# Altium schematic symbol library ICs-USBInterface.SchLib: 4 symbols
Pins are listed as number, name and electrical type; pins without a type are passive.

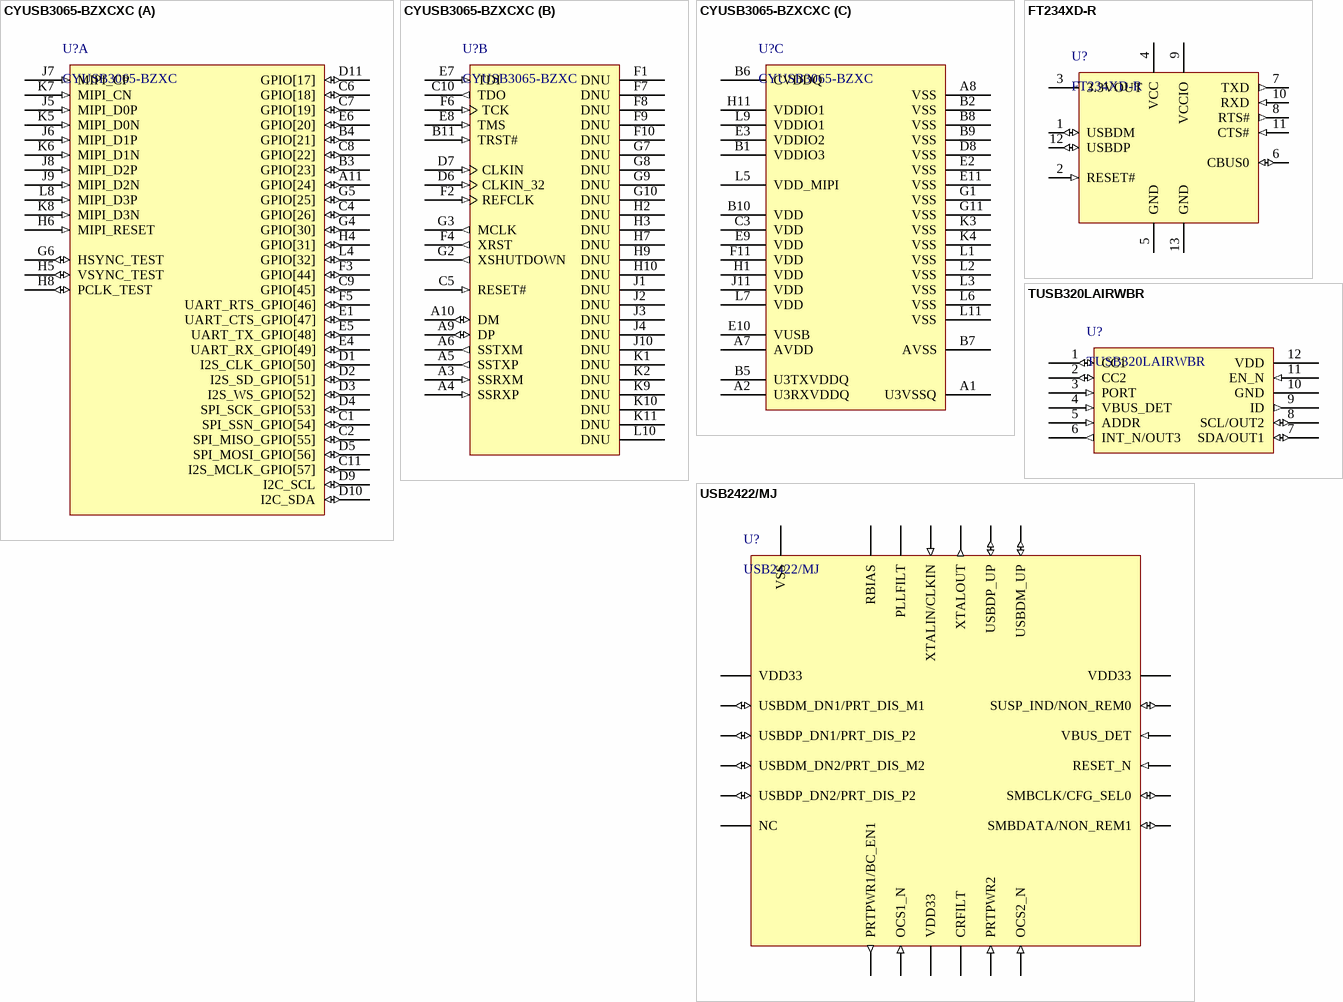
[diagram p0: symbols CYUSB3065-BZXCXC to USB2422/MJ]

## CYUSB3065-BZXCXC
designator U?, comment CYUSB3065-BZXC
MCU MIPI CSI-2 to USB Bridge Controller; Manufacturer: Cypress Semiconductor; Mounting Technology: Surface Mount; PartNumber: CYUSB3065-BZXC; PackageReference: BGA-121
footprint BGA-121 (BGA, 121-Leads, Body 10.00x10.00mmx1.70mm, Pitch 0.80mm)
part A pins: A11 GPIO[24] (io), B3 GPIO[23] (io), B4 GPIO[21] (io), C1 SPI_SSN_GPIO[54] (io), C2 SPI_MISO_GPIO[55] (io), C4 GPIO[26] (io), C6 GPIO[18] (io), C7 GPIO[19] (io), C8 GPIO[22] (io), C9 GPIO[45] (io), C11 I2S_MCLK_GPIO[57] (io), D1 I2S_CLK_GPIO[50] (io), D2 I2S_SD_GPIO[51] (io), D3 I2S_WS_GPIO[52] (io), D4 SPI_SCK_GPIO[53] (io), D5 SPI_MOSI_GPIO[56] (io), D9 I2C_SCL (io), D10 I2C_SDA (io), D11 GPIO[17] (io), E1 UART_CTS_GPIO[47] (io), E4 UART_RX_GPIO[49] (io), E5 UART_TX_GPIO[48] (io), E6 GPIO[20] (io), F3 GPIO[44] (io), F5 UART_RTS_GPIO[46] (io), G4 GPIO[30] (io), G5 GPIO[25] (io), G6 HSYNC_TEST (io), H4 GPIO[31] (io), H5 VSYNC_TEST (io), H6 MIPI_RESET (in), H8 PCLK_TEST (io), J5 MIPI_D0P (in), J6 MIPI_D1P (in), J7 MIPI_CP (in), J8 MIPI_D2P (in), J9 MIPI_D2N (in), K5 MIPI_D0N (in), K6 MIPI_D1N (in), K7 MIPI_CN (in), K8 MIPI_D3N (in), L4 GPIO[32] (io), L8 MIPI_D3P (in)
part B pins: A3 SSRXM (in), A4 SSRXP (in), A5 SSTXP (out), A6 SSTXM (out), A9 DP (io), A10 DM (io), B11 TRST# (in), C5 RESET# (in), C10 TDO (out), D6 CLKIN_32 (in), D7 CLKIN (in), E7 TDI (in), E8 TMS (in), F1 DNU, F2 REFCLK (in), F4 XRST (out), F6 TCK (in), F7 DNU, F8 DNU, F9 DNU, F10 DNU, G2 XSHUTDOWN (out), G3 MCLK (out), G7 DNU, G8 DNU, G9 DNU, G10 DNU, H2 DNU, H3 DNU, H7 DNU, H9 DNU, H10 DNU, J1 DNU, J2 DNU, J3 DNU, J4 DNU, J10 DNU, K1 DNU, K2 DNU, K9 DNU, K10 DNU, K11 DNU, L10 DNU
part C pins: A1 U3VSSQ (power), A2 U3RXVDDQ (power), A7 AVDD (power), A8 VSS (power), B1 VDDIO3 (power), B2 VSS (power), B5 U3TXVDDQ (power), B6 CVDDQ (power), B7 AVSS (power), B8 VSS (power), B9 VSS (power), B10 VDD (power), C3 VDD (power), D8 VSS (power), E2 VSS (power), E3 VDDIO2 (power), E9 VDD (power), E10 VUSB (power), E11 VSS (power), F11 VDD (power), G1 VSS (power), G11 VSS (power), H1 VDD (power), H11 VDDIO1 (power), J11 VDD (power), K3 VSS (power), K4 VSS (power), L1 VSS (power), L2 VSS (power), L3 VSS (power), L5 VDD_MIPI (power), L6 VSS (power), L7 VDD (power), L9 VDDIO1 (power), L11 VSS (power)

## FT234XD-R
designator U?
USB Interface IC USB to Serial UART Interface; Manufacturer: FTDI; PartNumber: FT234XD-R; PackageReference: DFN-12; Mounting Technology: Surface Mount
footprint DFN-12 (SON, 12-Leads, Body 3x3mm, Pitch 0.45mm, Thermal Pad 2.5x1.6mm)
pins: 1 USBDM (io) "USB Data Signal Minus.", 2 RESET# (in) "Reset input (active low).", 3 3.3VOUT (power) "3.3V output at 50mA. May be used to power VCCIO. When VCC is 3.3V; pin 3 is an input pin and should be connected to pin 4.", 4 VCC (power) "5 V (or 3.3V) supply to IC", 5 GND (power) "0V Ground input.", 6 CBUS0 (io) "Configurable CBUS I/O Pin. Function of this pin is configured in the device MTP memory. The default configuration is TXDEN.", 7 TXD (out) "Transmit Asynchronous Data Output.", 8 RTS# (out) "Request to Send Control Output / Handshake Signal.", 9 VCCIO (power) "1.8V - 3.3V supply for the IO cells", 10 RXD (in) "Receiving Asynchronous Data Input.", 11 CTS# (in) "Clear To Send Control Input / Handshake Signal.", 12 USBDP (io) "USB Data Signal Plus.", 13 GND (power) "0V Ground input."

## TUSB320LAIRWBR
designator U?
USB Interface IC Type-C Configuration Channel Logic and Port Control 12-X2QFN -40 to 85; Manufacturer: Texas Instruments; PackageReference: QFN-12; Mounting Technology: Surface Mount; PartNumber: TUSB320LAIRWBR
footprint X2QFN-12 (QFN, 12-Leads, Body 1.60x1.60mm, Pitch 0.40mm, IPC Medium Density)
pins: 1 CC1 (io), 2 CC2 (io), 3 PORT (in), 4 VBUS_DET (in), 5 ADDR (in), 6 INT_N/OUT3 (out), 7 SDA/OUT1 (io), 8 SCL/OUT2 (io), 9 ID (out), 10 GND (power), 11 EN_N (in), 12 VDD (power)

## USB2422/MJ
designator U?
USB Hub IC 2-Port; Manufacturer: Microchip; PartNumber: USB2422/MJ; PackageReference: QFN-24; Mounting Technology: Surface Mount
footprint QFN-24 (4x4MM) (QFN, 24-Leads, Body 4.00x4.00mm, Pitch 0.50mm, Thermal Pad 2.50x2.50mm, IPC Medium Density)
pins: 1 VDD33 (power), 2 USBDM_DN1/PRT_DIS_M1 (io), 3 USBDP_DN1/PRT_DIS_P2 (io), 4 USBDM_DN2/PRT_DIS_M2 (io), 5 USBDP_DN2/PRT_DIS_P2 (io), 6 NC, 7 PRTPWR1/BC_EN1 (out), 8 OCS1_N (in), 9 VDD33 (power), 10 CRFILT, 11 PRTPWR2 (in), 12 OCS2_N (in), 13 SMBDATA/NON_REM1 (io), 14 SMBCLK/CFG_SEL0 (io), 15 RESET_N (in), 16 VBUS_DET (in), 17 SUSP_IND/NON_REM0 (io), 18 VDD33 (power), 19 USBDM_UP (io), 20 USBDP_UP (io), 21 XTALOUT (out), 22 XTALIN/CLKIN (in), 23 PLLFILT, 24 RBIAS, 25 VSS (power)